# EAGLE library part TAS5615PHDR (library Mine)
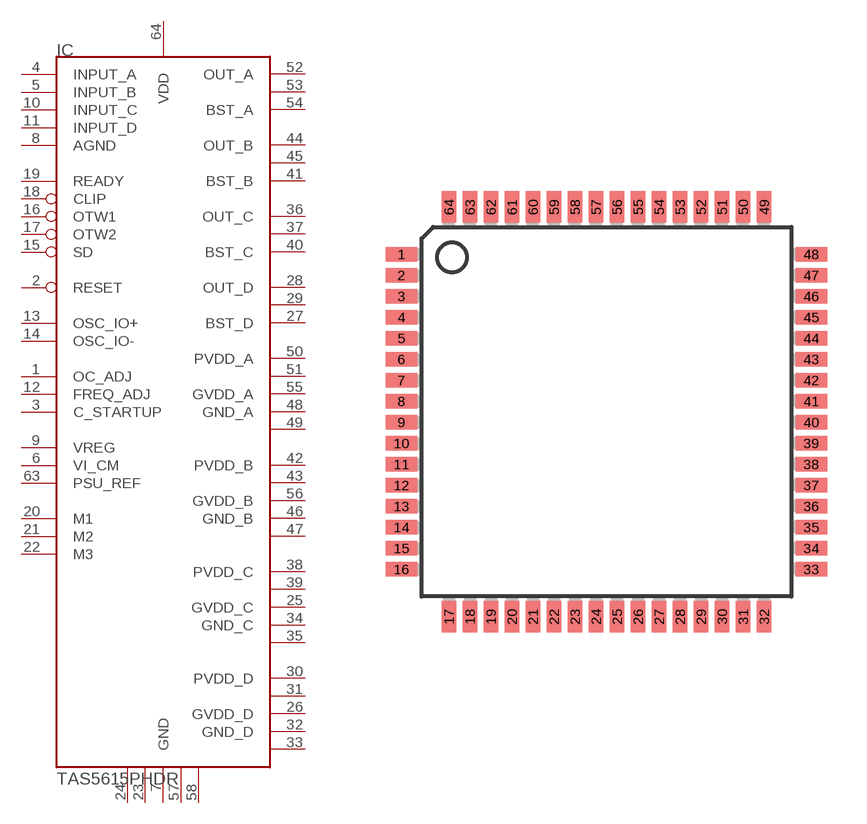
[diagram p9: symbol with the pads of TQFP64; footprint TQFP64]

Designator prefix IC

## TAS5615PHDR  [TQFP64]
1  OC_ADJ  out
2  RESET  in
3  C_STARTUP  in
4  INPUT_A  in
5  INPUT_B  in
6  VI_CM  out
7  GND  pwr
8  AGND  pwr
9  VREG  pwr
10  INPUT_C  in
11  INPUT_D  in
12  FREQ_ADJ  out
13  OSC_IO+
14  OSC_IO-
15  SD  out
16  OTW1  out
17  OTW2  out
18  CLIP  out
19  READY  out
20  M1  in
21  M2  in
22  M3  in
23  GND1  pwr
24  GND2  pwr
25  GVDD_C  pwr
26  GVDD_D  pwr
27  BST_D  pwr
28  OUT_D  out
29  OUT_D1  out
30  PVDD_D  pwr
31  PVDD_D1  pwr
32  GND_D  pwr
33  GND_D1  pwr
34  GND_C  pwr
35  GND_C1  pwr
36  OUT_C  out
37  OUT_C1  out
38  PVDD_C  pwr
39  PVDD_C1  pwr
40  BST_C  pwr
41  BST_B  pwr
42  PVDD_B  pwr
43  PVDD_B1  pwr
44  OUT_B  out
45  OUT_B1  out
46  GND_B  pwr
47  GND_B1  pwr
48  GND_A  pwr
49  GND_A1  pwr
50  PVDD_A  pwr
51  PVDD_A1  pwr
52  OUT_A  out
53  OUT_A1  out
54  BST_A  pwr
55  GVDD_A  pwr
56  GVDD_B  pwr
57  GND3  pwr
58  GND4  pwr
63  PSU_REF  pwr
64  VDD  pwr

## Footprint TQFP64 (pad centres in mm)
Thin Plasic Quad Flat Package Updated from atml.lbr 17.01.2005 alf@cadsoft.de
smd 1.194 x 0.546: 1 -7.8,6; 2 -7.8,5.2; 3 -7.8,4.4; 4 -7.8,3.6; 5 -7.8,2.8; 6 -7.8,2; 7 -7.8,1.2; 8 -7.8,0.4; 9 -7.8,-0.4; 10 -7.8,-1.2; 11 -7.8,-2; 12 -7.8,-2.8; 13 -7.8,-3.6; 14 -7.8,-4.4; 15 -7.8,-5.2; 16 -7.8,-6; 33 7.8,-6; 34 7.8,-5.2; 35 7.8,-4.4; 36 7.8,-3.6; 37 7.8,-2.8; 38 7.8,-2; 39 7.8,-1.2; 40 7.8,-0.4; 41 7.8,0.4; 42 7.8,1.2; 43 7.8,2; 44 7.8,2.8; 45 7.8,3.6; 46 7.8,4.4; 47 7.8,5.2; 48 7.8,6
smd 0.546 x 1.194: 17 -6,-7.8; 18 -5.2,-7.8; 19 -4.4,-7.8; 20 -3.6,-7.8; 21 -2.8,-7.8; 22 -2,-7.8; 23 -1.2,-7.8; 24 -0.4,-7.8; 25 0.4,-7.8; 26 1.2,-7.8; 27 2,-7.8; 28 2.8,-7.8; 29 3.6,-7.8; 30 4.4,-7.8; 31 5.2,-7.8; 32 6,-7.8; 49 6,7.8; 50 5.2,7.8; 51 4.4,7.8; 52 3.6,7.8; 53 2.8,7.8; 54 2,7.8; 55 1.2,7.8; 56 0.4,7.8; 57 -0.4,7.8; 58 -1.2,7.8; 59 -2,7.8; 60 -2.8,7.8; 61 -3.6,7.8; 62 -4.4,7.8; 63 -5.2,7.8; 64 -6,7.8